# Altium footprint library ControlSwitchPCBPcbLib.PcbLib: 5 footprints
Each footprint in its own frame and in the unit in brackets; x right, y up, seen from the top. Pads: shape width x height; smd on the part's side, far side on the other; paste and mask are expansions set on the pad; w line width, h text height; cw(c..) or ccw(c..) is an arc to the next point about the centre after c.
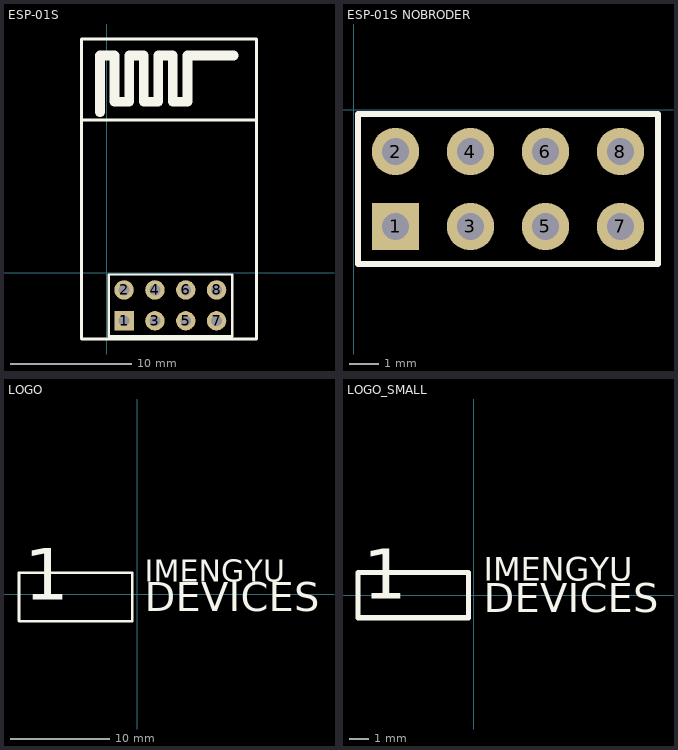
[diagram p0: the footprints below, top view; thin cyan lines are the x and y axes]

## ESP-01S [mm]
pads (8):
  rect 1.6x1.6 hole 0.9: 1(1.419,-3.961)
  round 1.6 hole 0.9: 2(1.419,-1.421) 3(3.959,-3.961) 4(3.959,-1.421) 5(6.499,-3.961) 6(6.499,-1.421) 7(9.039,-3.961) 8(9.039,-1.421)
Top Overlay:
  lines w0.2: 2.901,-5.231 10.309,-5.231 10.309,-0.151 0.149,-0.151 0.149,-5.231 7.769,-5.231
  lines w0.254: -2.032,12.573 12.319,12.573 ; -2.081,-5.461 12.319,-5.461 12.319,19.239 -2.081,19.239 ; -2.081,-5.461 -2.081,19.239 ; -2.081,-5.461 -2.081,19.239
  lines w0.8: -0.561,13.208 -0.561,17.883 0.639,17.883 0.639,14.083 1.839,14.083 1.839,17.883 3.039,17.883 3.039,14.083 4.239,14.083 4.239,17.883 5.439,17.883 5.439,14.083 6.639,14.083 6.639,17.883 10.439,17.883
3D body "HDR2.54-1x2P.STEP": height 8.5, standoff -3, extent 2.689,-5.231 5.229,-0.151
3D body "HDR2.54-1x2P.STEP": height 8.5, standoff -3, extent 0.149,-5.231 2.689,-0.151
3D body "HDR2.54-1x2P.STEP": height 8.5, standoff -3, extent 7.769,-5.231 10.309,-0.151
3D body "HDR2.54-1x2P.STEP": height 8.5, standoff -3, extent 5.229,-5.231 7.769,-0.151

## ESP-01S NOBRODER [mm] "ESP-01S 无边框"
pads (8):
  rect 1.6x1.6 hole 0.9: 1(1.419,-3.961)
  round 1.6 hole 0.9: 2(1.419,-1.421) 3(3.959,-3.961) 4(3.959,-1.421) 5(6.499,-3.961) 6(6.499,-1.421) 7(9.039,-3.961) 8(9.039,-1.421)
Top Overlay:
  lines w0.2: 2.901,-5.231 10.309,-5.231 10.309,-0.151 0.149,-0.151 0.149,-5.231 7.769,-5.231
3D body "HDR2.54-1x2P.STEP": height 8.5, standoff -3, extent 2.689,-5.231 5.229,-0.151
3D body "HDR2.54-1x2P.STEP": height 8.5, standoff -3, extent 0.149,-5.231 2.689,-0.151
3D body "HDR2.54-1x2P.STEP": height 8.5, standoff -3, extent 7.769,-5.231 10.309,-0.151
3D body "HDR2.54-1x2P.STEP": height 8.5, standoff -3, extent 5.229,-5.231 7.769,-0.151

## LOGO [mm]
Top Overlay:
  region: -1.016,1.27
  region: -0.762,1.905
  lines w0.254: -7.112,2.159 -0.508,2.159 ; -0.508,2.159 -11.938,2.159 -11.938,-2.705 -11.893,-2.749 -0.508,-2.749 -0.508,2.159
  text "1" at -11.43,-2.286 h8.89
  text "DEVICES" at 0.762,-2.749 h5.08
  text "IMENGYU" at 0.762,0.519 h3.81

## LOGO_BIG [mm]
Top Overlay:
  drawing of 216 lines, arcs and shapes, not listed
  text "IMENGYU" at 1.651,1.444 h4.83
  text "DEVICES" at 1.651,-2.613 h6.1

## LOGO_SMALL [mm]
Top Overlay:
  region: 3.683,1.016
  region: 3.937,1.651
  lines w0.254: -5.842,-1.143 -5.842,1.143 -0.254,1.143 -0.254,-1.143 -5.842,-1.143
  text "1" at -5.588,-1.016 h4.32
  text "DEVICES" at 0.508,-1.375 h2.54
  text "IMENGYU" at 0.508,0.327 h2.03
3D body: height 0.25, standoff 0, extent 0.381,1.778 0.381,1.778